# EAGLE library part 24LCXXX (library memories)
Serial EEPROM I2C
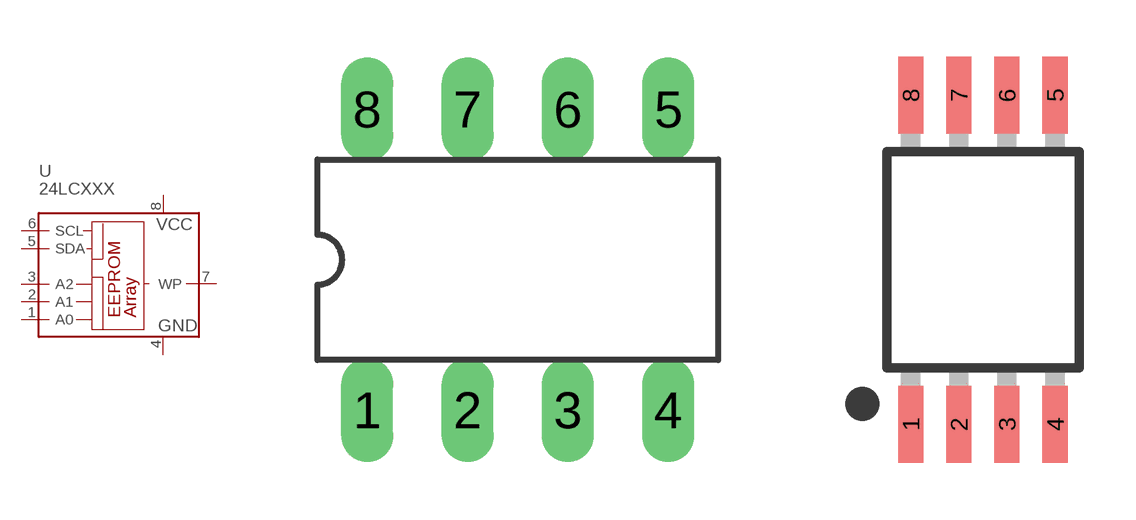
[diagram p2: symbol with the pads of DIL8; footprints DIL8, SOIC08W]

Designator prefix U

## 24LCXXXP  [DIL8]
1  A0  in
2  A1  in
3  A2  in
4  GND  pwr
5  SDA
6  SCL  in
7  WP  in
8  VCC  pwr

## 24LCXXXSOIC (PACKAGE: SOIC08W)  [SOIC08W]
Pads as for DIL8

## Footprint DIL8 (pad centres in mm)
Dual In Line package type P
drill 0.813 long: 1 -3.81,-3.81; 2 -1.27,-3.81; 3 1.27,-3.81; 4 3.81,-3.81; 5 3.81,3.81; 6 1.27,3.81; 7 -1.27,3.81; 8 -3.81,3.81

## Footprint SOIC08W (pad centres in mm)
Small Outline Package SOIC 150 mil
smd 0.66 x 2.032: 1 -1.905,-4.343; 2 -0.635,-4.343; 3 0.635,-4.343; 4 1.905,-4.343; 5 1.905,4.343; 6 0.635,4.343; 7 -0.635,4.343; 8 -1.905,4.343